# Altium schematic symbol library ICgeneral.SchLib: 61 symbols
Pins are listed as number, name and electrical type; pins without a type are passive.

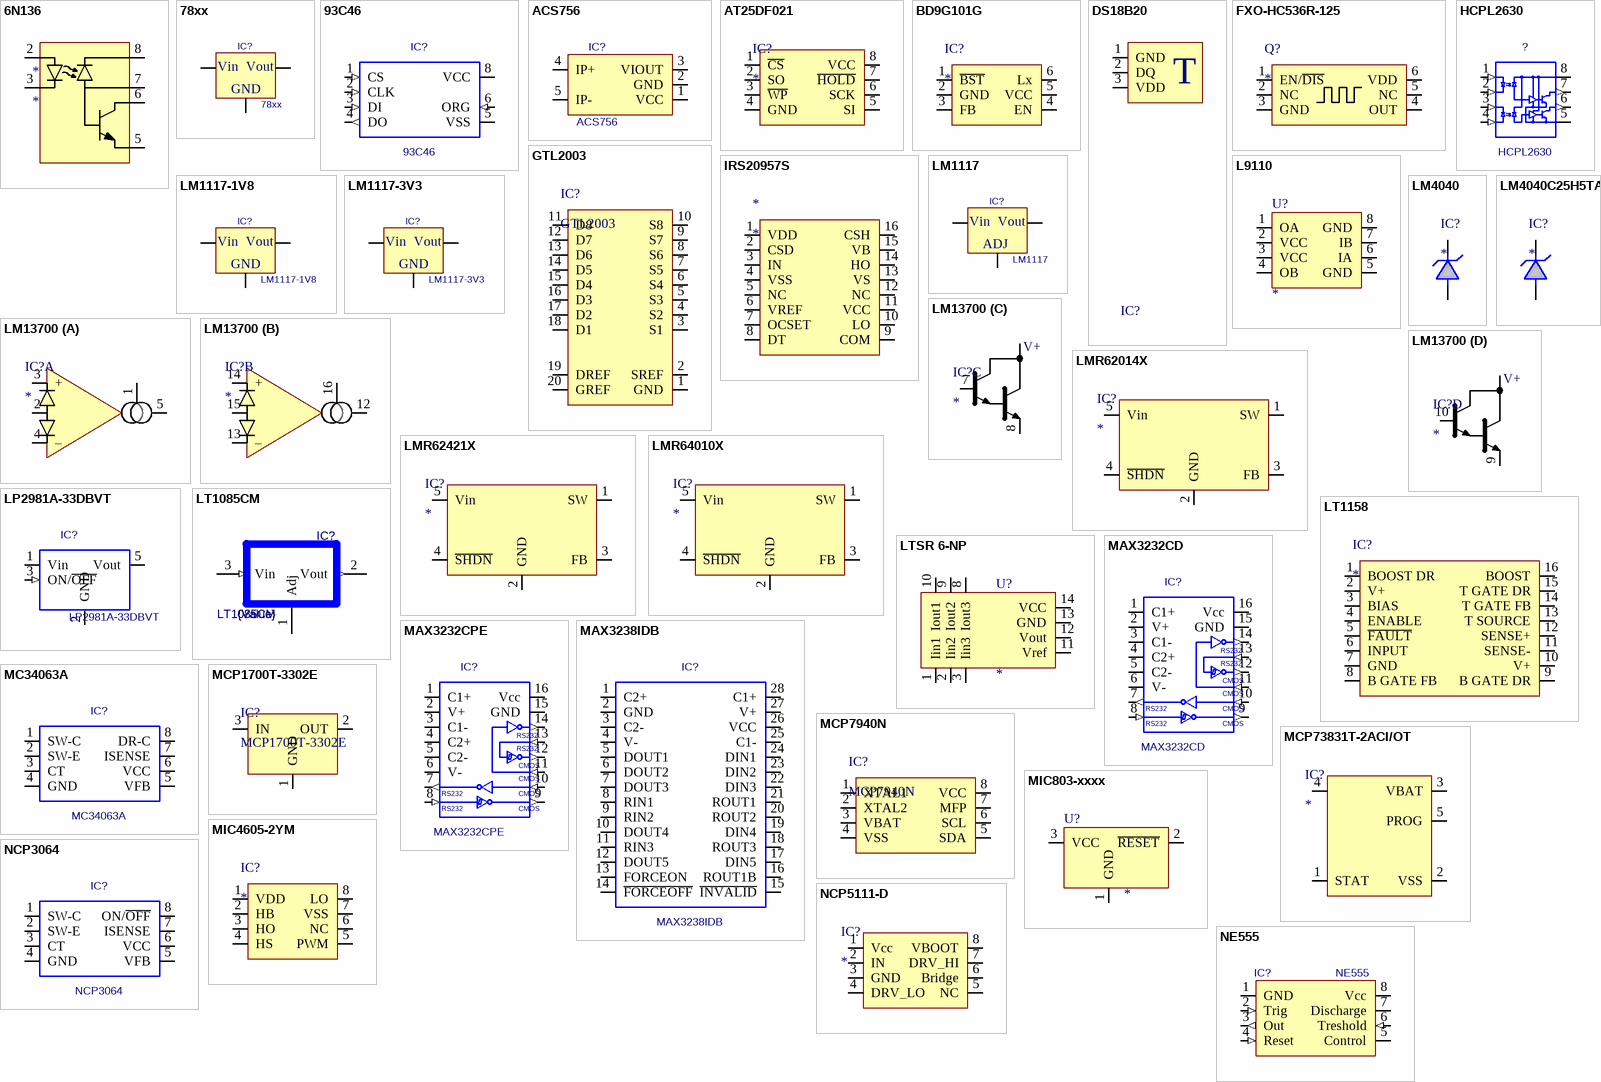
[diagram p0: symbols 6N136 to NE555]

## 6N136
designator *
footprint SOP-8-100mil
pins: 2 A, 3 K, 5 GND, 6 Vo, 7 Vb, 8 Vcc

## 78xx
designator IC?
3-point linear voltage regulator series 78xx; Value: *
footprint TO92; pin to pad GND>2 IN>3 OUT>1
footprint TO-220; pin to pad GND>2 IN>1 OUT>3
footprint TO-220-LEZECI; pin to pad GND>2 IN>1 OUT>3
pins: GND, IN, OUT
text: Vin; Vout

## 93C46
designator IC?
Value: *
footprint SOIC8N
pins: 1 CS (in), 2 CLK (in), 3 DI (in), 4 DO (out), 5 VSS (power), 6 ORG (in), 7 hidden, 8 VCC (power)

## ACS756
designator IC?
Value: *
footprint ALLEGRO_ACS75x
pins: 1 VCC, 2 GND, 3 VIOUT, 4 IP+, 5 IP-

## AT25DF021
designator IC?
Flash 2Mbit SPI
footprint SOIC8N
pins: 1 ~{CS}, 2 SO, 3 ~{WP}, 4 GND, 5 SI, 6 SCK, 7 ~{HOLD}, 8 VCC

## BD9G101G
designator IC?
StepDown Vin=6-42, Ioutmax=0.5A; Supplier 1: Farnell; Supplier Part Number 1: 2373587
footprint SSOP6-p0.95
pins: 1 ~{BST}, 2 GND, 3 FB, 4 EN, 5 VCC, 6 Lx

## DS18B20
designator IC?
Temperature sensor 1-wire interface
footprint TO92
pins: 1 GND, 2 DQ, 3 VDD
text: T

## FXO-HC536R-125
designator Q?
125 MHZ HCMOS Oscilator; Supplier 1: Farnell; Supplier Part Number 1: 2064041
footprint OSC-5x3.2 (QFN, 6-Leads, Body 3.35x5.15mm, Pitch 1.27mm, IPC Medium Density)
pins: 1 EN/~{DIS}, 2 NC, 3 GND, 4 OUT, 5 NC, 6 VDD

## GTL2003
designator IC?
Bidirectional level shifter
footprint TSSOP20
pins: 1 GND, 2 SREF, 3 S1, 4 S2, 5 S3, 6 S4, 7 S5, 8 S6, 9 S7, 10 S8, 11 D8, 12 D7, 13 D6, 14 D5, 15 D4, 16 D3, 17 D2, 18 D1, 19 DREF, 20 GREF

## HCPL2630
designator ?
Value: *
footprint DIP8
pins: 1 (in), 2 (in), 3 (in), 4 (in), 5 GND (power), 6 (out), 7 (out), 8 VCC (power)

## IRS20957S
designator *
footprint SOIC16N
pins: 1 VDD, 2 CSD, 3 IN, 4 VSS, 5 NC, 6 VREF, 7 OCSET, 8 DT, 9 COM, 10 LO, 11 VCC, 12 NC, 13 VS, 14 HO, 15 VB, 16 CSH

## L9110
designator U?
H-bridge, I=800mA, U=2.5-12V
footprint DIP8
footprint SOP-8 (SOIC, 8-Leads, Body 4.90x3.90mm, Pitch 1.27mm, IPC Medium Density)
pins: 1 OA, 2 VCC, 3 VCC, 4 OB, 5 GND, 6 IA, 7 IB, 8 GND

## LM1117
designator IC?
Value: *
footprint SOT233 (SOT223, 4-Leads, Body 6,7x7,3mm (max), Pitch 2,30mm, IPC Medium Density); pin to pad ADJ>1 IN>3 OUT>2
pins: ADJ, IN, OUT
text: Vin; Vout

## LM1117-1V8
designator IC?
Value: *
footprint SOT233 (SOT223, 4-Leads, Body 6,7x7,3mm (max), Pitch 2,30mm, IPC Medium Density); pin to pad GND>1 IN>3 OUT>2
pins: GND, IN, OUT
text: Vin; Vout

## LM1117-3V3
designator IC?
Value: *
footprint SOT233 (SOT223, 4-Leads, Body 6,7x7,3mm (max), Pitch 2,30mm, IPC Medium Density); pin to pad GND>1 IN>3 OUT>2
pins: GND, IN, OUT
text: Vin; Vout

## LM4040
designator IC?
Voltage reference
footprint SC-70-5 (SC-70, 5-Leads, Body 2.00x1.25mm, Pitch 0.65mm, IPC Medium Density); pin to pad A>1 K>3
pins: A, K

## LM4040C25H5TA
designator IC?
2.5V reference; Supplier 1: Farnell; Supplier Part Number 1: 1825372
footprint SC-70-5 (SC-70, 5-Leads, Body 2.00x1.25mm, Pitch 0.65mm, IPC Medium Density); pin to pad A>1 K>3
pins: A, K

## LM13700
designator IC?
Dual Transconductance amp Vsupmax=36V, Vinmax=5V; Supplier 1: Farnell; Supplier Part Number 1: 1468910; Supplier 2: Farnell; Supplier Part Number 2: 1651866
footprint DIP16
footprint SOIC16N
part A pins: 1 Iabc1, 2 1D_BIAS, 3 +, 4 –, 5 1OUT, 6 V- hidden to GND, 11 V+ hidden to VCC
part B pins: 12 2OUT, 13 –, 14 +, 15 2D_BIAS, 16 Iabc2
part C pins: 7 1BUF_IN, 8 1BUF_OUT
part D pins: 9 2BUF_OUT, 10 2BUF_IN

## LMR62014X
designator IC?
Step-up, 20Vout, 1.4A, 2.7-14Vin, 1.6MHz
footprint SOT23-5 (SOT23, 5-Leads, Body 3.0x3.0mm (max), Pitch 0.95mm, IPC Medium Density)
pins: 1 SW, 2 GND, 3 FB, 4 ~{SHDN}, 5 Vin

## LMR62421X
designator IC?
Step-up, 24Vout, 2.1A, 2.7-5.5Vin, 1.6MHz
footprint SOT23-5 (SOT23, 5-Leads, Body 3.0x3.0mm (max), Pitch 0.95mm, IPC Medium Density)
pins: 1 SW, 2 GND, 3 FB, 4 ~{SHDN}, 5 Vin

## LMR64010X
designator IC?
Step-up, 40Vout, 1A, 2.7-14Vin, 1.6MHz
footprint SOT23-5 (SOT23, 5-Leads, Body 3.0x3.0mm (max), Pitch 0.95mm, IPC Medium Density)
pins: 1 SW, 2 GND, 3 FB, 4 ~{SHDN}, 5 Vin

## LP2981A-33DBVT
designator IC?
Value: *
footprint SOT-23
pins: 1 Vin (power), 2 GND (power), 3 ON/~{OFF} (in), 4 NC hidden, 5 Vout (power)

## LT1085CM
designator IC?  value {Value}
Low Dropout Positive Adjustable Regulator; Proizvajalec: Linear Technology
footprint 3-LEAD_DD_MPACK
pins: 1 Adj, 2 Vout (out), 3 Vin (in), 4 hidden

## LT1158
designator IC?
Half Bridge N-channel Power MOSFET driver
footprint SOIC16W (SOIC, 16-Leads, Body 10,5x7,6mm (max), Pitch 1,27mm, IPC Medium Density)
pins: 1 BOOST DR, 2 V+, 3 BIAS, 4 ENABLE, 5 ~{FAULT}, 6 INPUT, 7 GND, 8 B GATE FB, 9 B GATE DR, 10 V+, 11 SENSE-, 12 SENSE+, 13 T SOURCE, 14 T GATE FB, 15 T GATE DR, 16 BOOST

## LTSR 6-NP
designator U?
footprint LTSR 6-NP
pins: 1 Iin1, 2 Iin2, 3 Iin3, 8 Iout3, 9 Iout2, 10 Iout1, 11 Vref, 12 Vout, 13 GND, 14 VCC

## MAX3232CD
designator IC?
Value: *
footprint DIP16
pins: 1 C1+, 2 V+, 3 C1-, 4 C2+, 5 C2-, 6 V-, 7 (out), 8 (in), 9 (out), 10 (in), 11 (in), 12 (out), 13 (in), 14 (out), 15 GND, 16 Vcc
text: RS232; CMOS

## MAX3232CPE
designator IC?
Value: *
footprint DIP16
pins: 1 C1+, 2 V+, 3 C1-, 4 C2+, 5 C2-, 6 V-, 7 T2out (out), 8 R2in (in), 9 R2out (out), 10 T2in (in), 11 T1in (in), 12 R1out (out), 13 R1in (in), 14 T1out (out), 15 GND, 16 Vcc
text: RS232; CMOS

## MAX3238IDB
designator IC?
Value: *
footprint SSOP28
pins: 1 C2+, 2 GND, 3 C2-, 4 V-, 5 DOUT1, 6 DOUT2, 7 DOUT3, 8 RIN1, 9 RIN2, 10 DOUT4, 11 RIN3, 12 DOUT5, 13 FORCEON, 14 ~{FORCEOFF}, 15 ~{INVALID}, 16 ROUT1B, 17 DIN5, 18 ROUT3, 19 DIN4, 20 ROUT2, 21 ROUT1, 22 DIN3, 23 DIN2, 24 DIN1, 25 C1-, 26 VCC, 27 V+, 28 C1+

## MC34063A
designator IC?
Value: *
footprint SOIC8N
footprint DIP8
pins: 1 SW-C, 2 SW-E, 3 CT, 4 GND, 5 VFB, 6 VCC, 7 ISENSE, 8 DR-C

## MCP1700T-3302E
designator IC?
LDO 3V3, 250mA (Vin=3.478 - 6V); Supplier 1: Farnell; Supplier Part Number 1: 1296592; ComponentLink1URL: http://ww1.microchip.com/downloads/en/DeviceDoc/21826b.pdf; ComponentLink1Description: http://ww1.microchip.com/downloads/en/DeviceDoc/21826b.pdf
footprint SOT-23-3 (SOT23, 3-Leads, Body 2.86x2.37mm, Pitch 0.95mm, IPC Medium Density)
pins: 1 GND, 2 OUT, 3 IN

## MCP7940N
designator IC?
RTC
footprint SOIC8N
pins: 1 XTAL1, 2 XTAL2, 3 VBAT, 4 VSS, 5 SDA, 6 SCL, 7 MFP, 8 VCC

## MCP73831T-2ACI/OT
designator IC?
Li-ion 1cell charger
footprint SOT23-5 (SOT23, 5-Leads, Body 3.0x3.0mm (max), Pitch 0.95mm, IPC Medium Density)
pins: 1 STAT, 2 VSS, 3 VBAT, 4 VDD, 5 PROG

## MIC803-xxxx
designator U?
footprint SOT-23-3 (SOT23, 3-Leads, Body 2.86x2.37mm, Pitch 0.95mm, IPC Medium Density)
pins: 1 GND, 2 ~{RESET}, 3 VCC

## MIC4605-2YM
designator IC?
HalfBridge bootstrap driver w dead time (40ns); Supplier 1: Farnell; Supplier Part Number 1: 2382324
footprint SOIC8N
pins: 1 VDD, 2 HB, 3 HO, 4 HS, 5 PWM, 6 NC, 7 VSS, 8 LO

## NCP3064
designator IC?
Switching regulator 1.5A, up/down/invert; Value: *
footprint SOIC8N
footprint DIP8
pins: 1 SW-C, 2 SW-E, 3 CT, 4 GND, 5 VFB, 6 VCC, 7 ISENSE, 8 ON/~{OFF}

## NCP5111-D
designator IC?
High and Low side driver, high voltage (up to 600V, gate drive supply range 10 to 20V)
footprint SOIC8N
pins: 1 Vcc, 2 IN, 3 GND, 4 DRV_LO, 5 NC, 6 Bridge, 7 DRV_HI, 8 VBOOT

## NE555
designator IC?
Value: *
footprint DIP8
pins: 1 GND (power), 2 Trig (in), 3 Out (out), 4 Reset (in), 5 Control, 6 Treshold (in), 7 Discharge (oe), 8 Vcc (power)

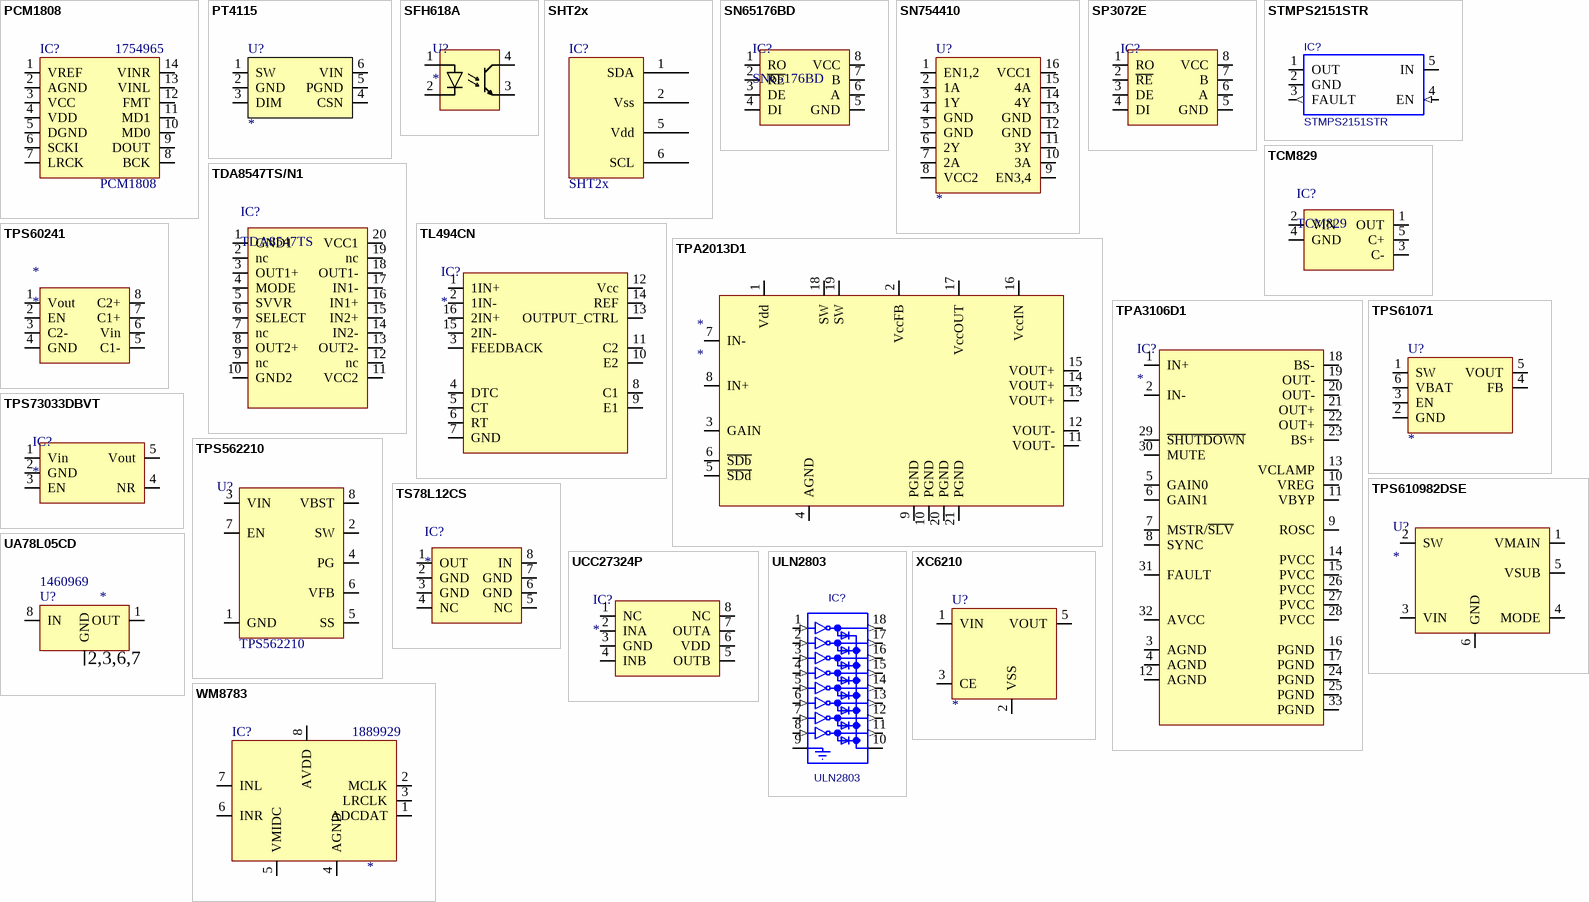
[diagram p1: symbols PCM1808 to XC6210]

## PCM1808
designator IC?  Supplier Part Number: 1754965
AD, 24-bit, 96kHz, sigma-delta, stereo; Manufacturer Part Number: PCM1808PW.; Manufacturer: TEXAS INSTRUMENTS; Supplier: Farnell; RoHS: YES
footprint TSSOP-14 (TSOP, 14-Leads, Body 5.00x4.40mm, Pitch 0.65mm, IPC Medium Density)
pins: 1 VREF, 2 AGND, 3 VCC, 4 VDD, 5 DGND, 6 SCKI, 7 LRCK, 8 BCK, 9 DOUT, 10 MD0, 11 MD1, 12 FMT, 13 VINL, 14 VINR

## PT4115
designator U?
LED driver, Imax=1.2A, fmax=1.5MHz, Uref=0.1V
footprint SOT89-5_thermal (SOT89-5, 5-Leads + thermal pad, Body 4.50x4.09mm, Pitch 1.50mm, IPC Low Density)
pins: 1 SW, 2 GND, 3 DIM, 4 CSN, 5 PGND, 6 VIN

## SFH618A
designator U?
OptoCoupler
footprint SO-4-100mil (SOP, 4-Leads, Body 4,8x6,8mm (max), Pitch 2,54mm, IPC Medium Density)
pins: 1 A, 2 K, 3 E, 4 C

## SHT2x
designator IC?
Voltage: 50V; Tolerance: 5%; max.Temperature: +125; min.Temperature: -40
footprint DFN6
pins: 0 power pad (power), 1 SDA (oc), 2 Vss (power), 5 Vdd (power), 6 SCL (oc)

## SN65176BD
designator IC?
RS485 transciever 5V
footprint SOIC8N
pins: 1 RO, 2 ~{RE}, 3 DE, 4 DI, 5 GND, 6 A, 7 B, 8 VCC

## SN754410
designator U?
H-bridge - dual, Half-bridge - quadruple, I=1A, Vcc=4.5-36V
footprint DIP16
pins: 1 EN1,2, 2 1A, 3 1Y, 4 GND, 5 GND, 6 2Y, 7 2A, 8 VCC2, 9 EN3,4, 10 3A, 11 3Y, 12 GND, 13 GND, 14 4Y, 15 4A, 16 VCC1

## SP3072E
designator IC?  (value not drawn)
RS485 transciever 3V3
footprint SOIC8N
pins: 1 RO, 2 ~{RE}, 3 DE, 4 DI, 5 GND, 6 A, 7 B, 8 VCC

## STMPS2151STR
designator IC?
HighSide current limiter 500mA; Value: *
footprint SOT-23
pins: 1 OUT (power), 2 GND (power), 3 FAULT (out), 4 EN (in), 5 IN (power)

## TCM829
designator IC?
ChargePump
footprint SOT-23
pins: 1 OUT, 2 VIN, 3 C-, 4 GND, 5 C+

## TDA8547TS/N1
designator IC?, comment TDA8547TS
AUDIO AMP 2x0.7W
footprint SSOP20 (TSOP, 20-Leads, Body 6.50x4.40mm, Pitch 0.65mm, IPC Medium Density)
pins: 1 GND1, 2 nc, 3 OUT1+, 4 MODE, 5 SVVR, 6 SELECT, 7 nc, 8 OUT2+, 9 nc, 10 GND2, 11 VCC2, 12 nc, 13 OUT2-, 14 IN2-, 15 IN2+, 16 IN1+, 17 IN1-, 18 OUT1-, 19 nc, 20 VCC1

## TL494CN
designator IC?
PWM (analog)
footprint SOIC16N
pins: 1 1IN+, 2 1IN-, 3 FEEDBACK, 4 DTC, 5 CT, 6 RT, 7 GND, 8 C1, 9 E1, 10 E2, 11 C2, 12 Vcc, 13 OUTPUT_CTRL, 14 REF, 15 2IN-, 16 2IN+

## TPA2013D1
designator *
footprint QFN20 (QFN, 20-Leads, Body 4.00x4.00mm, Pitch 0.50mm, Thermal Pad 2.70x2.70mm, IPC Low Density)
pins: 1 Vdd, 2 VccFB, 3 GAIN, 4 AGND, 5 ~{SDd}, 6 ~{SDb}, 7 IN-, 8 IN+, 9 PGND, 10 PGND, 11 VOUT-, 12 VOUT-, 13 VOUT+, 14 VOUT+, 15 VOUT+, 16 VccIN, 17 VccOUT, 18 SW, 19 SW, 20 PGND, 21 PGND

## TPA3106D1
designator IC?
40-W class-D audio amp, f=300kHz, Vcc=10-26V; Supplier 1: Farnell; Supplier Part Number 1: 1703199
footprint TQFP-32-0.8-TP (TQFP, 32-Leads, Body 7.00x7.00mm, Pitch 0.80mm, Thermal Pad 4.60x4.60mm, IPC Medium Density)
pins: 1 IN+, 2 IN-, 3 AGND, 4 AGND, 5 GAIN0, 6 GAIN1, 7 MSTR/~{SLV}, 8 SYNC, 9 ROSC, 10 VREG, 11 VBYP, 12 AGND, 13 VCLAMP, 14 PVCC, 15 PVCC, 16 PGND, 17 PGND, 18 BS-, 19 OUT-, 20 OUT-, 21 OUT+, 22 OUT+, 23 BS+, 24 PGND, 25 PGND, 26 PVCC, 27 PVCC, 28 PVCC, 29 ~{SHUTDOWN}, 30 MUTE, 31 FAULT, 32 AVCC, 33 PGND

## TPS60241
designator *
footprint MSOP8 (MSOP, 8-Leads, Body 3,1x3,1mm (max), Pitch 0,65mm, IPC Medium Density)
pins: 1 Vout, 2 EN, 3 C2-, 4 GND, 5 C1-, 6 Vin, 7 C1+, 8 C2+

## TPS61071
designator U?
Sync. Boost converter
footprint SOT23-6_L (Small Outline Transistor (SOT23), 0.95 mm pitch; 6 pin, 2.90 mm L X 1.60 mm W X 1.10 mm H body)
footprint SOT23-6_M (Small Outline Transistor (SOT23), 0.95 mm pitch; 6 pin, 2.90 mm L X 1.60 mm W X 1.10 mm H body)
footprint SOT23-6_N (Small Outline Transistor (SOT23), 0.95 mm pitch; 6 pin, 2.90 mm L X 1.60 mm W X 1.10 mm H body)
pins: 1 SW, 2 GND, 3 EN, 4 FB, 5 VOUT, 6 VBAT

## TPS73033DBVT
designator IC?
3.3V LDO
footprint SOT23-5 (SOT23, 5-Leads, Body 3.0x3.0mm (max), Pitch 0.95mm, IPC Medium Density)
pins: 1 Vin, 2 GND, 3 EN, 4 NR, 5 Vout

## TPS562210
designator U?
footprint DDF8_L (Small Outline Pkg (SOP), 0.65 mm pitch; 8 pin, 2.90 mm L X 1.60 mm W X 1.10 mm H body)
footprint DDF8_M (Small Outline Pkg (SOP), 0.65 mm pitch; 8 pin, 2.90 mm L X 1.60 mm W X 1.10 mm H body)
footprint DDF8_N (Small Outline Pkg (SOP), 0.65 mm pitch; 8 pin, 2.90 mm L X 1.60 mm W X 1.10 mm H body)
pins: 1 GND, 2 SW, 3 VIN, 4 PG, 5 SS, 6 VFB, 7 EN, 8 VBST

## TPS610982DSE
designator U?
footprint WSON6M (Small Outline No-Lead (SON), 0.50 mm pitch; 6 pin, 1.50 mm L X 1.50 mm W X 0.80 mm H body)
footprint WSON6N (Small Outline No-Lead (SON), 0.50 mm pitch; 6 pin, 1.50 mm L X 1.50 mm W X 0.80 mm H body)
footprint WSON6L (Small Outline No-Lead (SON), 0.50 mm pitch; 6 pin, 1.50 mm L X 1.50 mm W X 0.80 mm H body)
pins: 1 VMAIN, 2 SW, 3 VIN, 4 MODE, 5 VSUB, 6 GND

## TS78L12CS
designator IC?
Out=12, 100mA, Vinmax=35V, Ptot=500mW; Supplier 1: Farnell; Supplier Part Number 1: 7207999
footprint SOIC8N
pins: 1 OUT, 2 GND, 3 GND, 4 NC, 5 NC, 6 GND, 7 GND, 8 IN

## UA78L05CD
designator U?  Supplier Part Number 1: 1460969
V reg 7805 SOIC8; Supplier 1: Farnell
footprint SOIC8N
pins: 1 OUT, 2 GND, 3 GND, 6 GND, 7 GND, 8 IN
text: 2,3,6,7

## UCC27324P
designator IC?
driver
footprint SOIC8N
pins: 1 NC, 2 INA, 3 GND, 4 INB, 5 OUTB, 6 VDD, 7 OUTA, 8 NC

## ULN2803
designator IC?
Value: *
footprint DIP18N
pins: 1 (in), 2 (in), 3 (in), 4 (in), 5 (in), 6 (in), 7 (in), 8 (in), 9 GND (power), 10 LATCHUP (power), 11 (out), 12 (out), 13 (out), 14 (out), 15 (out), 16 (out), 17 (out), 18 (out)

## WM8783
designator IC?  Supplier Part Number: 1889929
ADC 24bit, 2ch, 96kHz, sigma-delta; Manufacturer Part Number: WM8783GED/RV; Manufacturer: WOLFSON MICROELECTRONICS; Data Interface: I2; Input Channel Type: Single Ended; No. of Pins: 8; Base Number: 8783; ADC / DAC Case Style: SOIC; Resolution (Bits): 24; Sampling Rate: 96; SVHC: No SVHC (16-Jun-2014); No. of Channels: 2; Supply Current: 8.74; Supply Voltage Range: 3V to 3.6; RoHS: YES; MSL: MSL 3 - 168 hours; Supplier: Farnell; Operating Temperature Max: 85; Packaging: Each; Operating Temperature Min: -40; Operating Temperature Range: -40°C to +85; Supply Voltage Range - Analogue: 3V to 3.6; Supply Voltage Range - Digital: 3V to 3.6
footprint SOIC8N
pins: 1 ADCDAT, 2 MCLK, 3 LRCLK, 4 AGND, 5 VMIDC, 6 INR, 7 INL, 8 AVDD

## XC6210
designator U?
footprint SOT23-5 (SOT23, 5-Leads, Body 3.0x3.0mm (max), Pitch 0.95mm, IPC Medium Density)
pins: 1 VIN, 2 VSS, 3 CE, 5 VOUT